# EAGLE library part HEADER_2X3 (library IotaWatt_parts)
Header 2x3
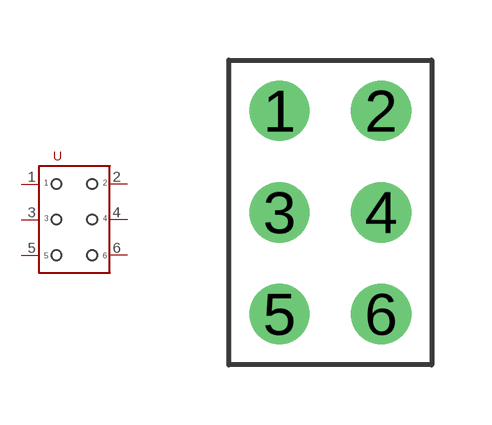
[diagram p2: symbol with the pads of HEADER_2X3; footprint HEADER_2X3]

Designator prefix -

## HEADER_2X3  [HEADER_2X3]
1  P$1
2  P$2
3  P$3
4  P$4
5  P$5
6  P$6

## Footprint HEADER_2X3 (pad centres in mm)
2x3 header
drill 1: 1 -1.27,2.54; 2 1.27,2.54; 3 -1.27,0; 4 1.27,0; 5 -1.27,-2.54; 6 1.27,-2.54